# EAGLE library part 15FLZ-SM1 (library con-jst)
CONNECTOR
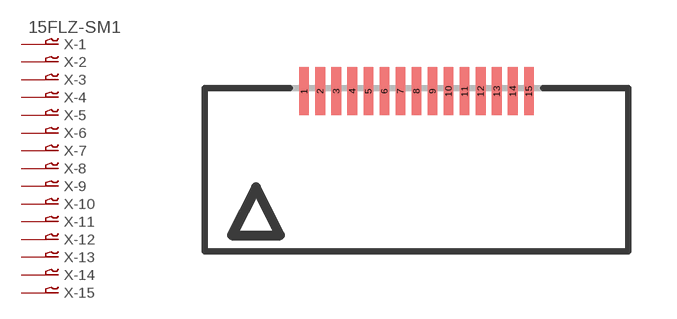
[diagram p10: symbol with the pads of 15FLZ-SM; footprint 15FLZ-SM]

Designator prefix X; gates -1=P-VN -2=P-N -3=P-N -4=P-N -5=P-N -6=P-N -7=P-N -8=P-N -9=P-N -10=P-N -11=P-N -12=P-N -13=P-N -14=P-N -15=P-N

## 15FLZ-SM1 (OC_FARNELL: unknown; OC_NEWARK: unknown)  [15FLZ-SM]
1  -1:1  pas
2  -2:1  pas
3  -3:1  pas
4  -4:1  pas
5  -5:1  pas
6  -6:1  pas
7  -7:1  pas
8  -8:1  pas
9  -9:1  pas
10  -10:1  pas
11  -11:1  pas
12  -12:1  pas
13  -13:1  pas
14  -14:1  pas
15  -15:1  pas

## Footprint 15FLZ-SM (pad centres in mm)
CONNECTOR
smd 0.3 x 1.5: 1 -3.5,2.5; 2 -3,2.5; 3 -2.5,2.5; 4 -2,2.5; 5 -1.5,2.5; 6 -1,2.5; 7 -0.5,2.5; 8 0,2.5; 9 0.5,2.5; 10 1,2.5; 11 1.5,2.5; 12 2,2.5; 13 2.5,2.5; 14 3,2.5; 15 3.5,2.5